# Altium schematic symbol library LM393DR2G.SchLib: 1 symbol
Pins are listed as number, name and electrical type; pins without a type are passive.

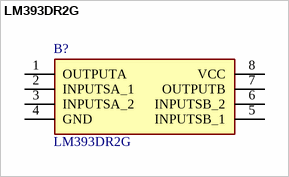
[diagram p0: symbol LM393DR2G]

## LM393DR2G
designator B?
Low Input Offset Current: 5.0 nA; Low Input Offset Voltage: 2.0 mV (max) LM393A 5.0 mV (max) LM293/393; Low Input Bias Current: 25 nA; Wide Single-Supply Range: 2.0 Vdc to 36 Vdc; Output Voltage Compatible with DTL, ECL, TTL, MOS, and CMOS Logic Levels; ESD Clamps on the Inputs Increase the Ruggedness of the Device without Affecting Performance; Input Common Mode Range to Ground Level; Very Low Current Drain Independent of Supply Voltage: 0.4 mA; Split-Supply Range: +/-1.0 Vdc to +/-18 Vdc; Differential Inp; Manufacturer_Name: onsemi; Geometry.Height: 1.75mm; Manufacturer_Part_Number: LM393DR2G; Mouser Part Number: 863-LM393DR2G; Mouser Price/Stock: https://www.mouser.co.uk/ProductDetail/onsemi/LM393DR2G?qs=2OtswVQKCOG5xGitOOiP7w%3D%3D; Arrow Part Number: LM393DR2G; Arrow Price/Stock: https://www.arrow.com/en/products/lm393dr2g/on-semiconductor.html?utm_currency=USD&region=europe; Datasheet Link: https://www.onsemi.com/pub/Collateral/LM393-D.PDF
footprint SOIC127P600X175-8N
pins: 1 OUTPUTA, 2 INPUTSA_1, 3 INPUTSA_2, 4 GND, 5 INPUTSB_1, 6 INPUTSB_2, 7 OUTPUTB, 8 VCC